# EAGLE library part 7461084 (library 7461084)
PCB power element bush terminal,8P, M6 Wurth Elektronik 8 Pin Power Element, Copper Zinc Alloy, 160A, M6, Vertical Source: Datasheet <https://www.we-online.com/components/products/datasheet/7461084.pdf>
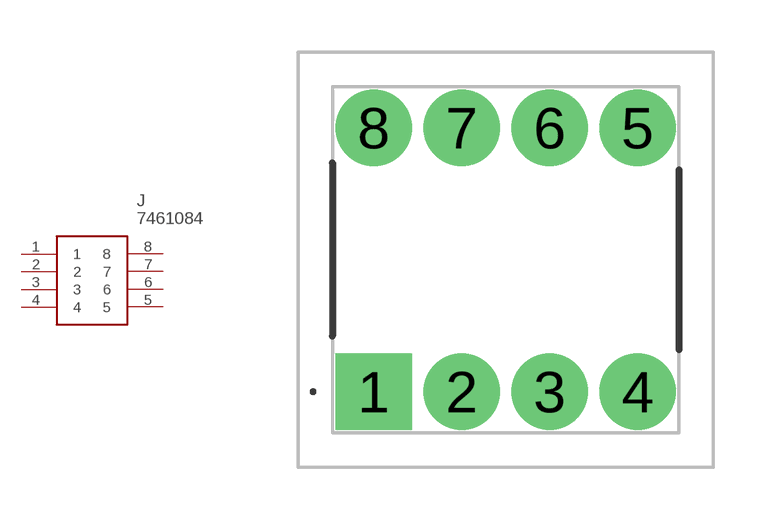
[diagram p0: symbol with the pads of 7461084; footprint 7461084]

Designator prefix J

## 7461084 (Description: PCB power element bush terminal,8P, M6 Wurth Elektronik 8 Pin Power Element, Copper Zinc Alloy, 160A, M6, Vertical; Height: 13.5mm; Manufacturer_Name: Wurth Elektronik; Manufacturer_Part_Number: 7461084; Mouser_Part_Number: 710-7461084; Mouser_Price-Stock: https://www.mouser.co.uk/ProductDetail/Wurth-Elektronik/7461084?qs=lykWx4dhCCHlOeuPuO4BAQ%3D%3D)  [7461084]
1  1
2  2
3  3
4  4
5  5
6  6
7  7
8  8

## Footprint 7461084 (pad centres in mm)
7461084
drill 1.475 pad 2.213 square: 1 0,0
drill 1.475 pad 2.213: 2 2.54,0; 3 5.08,0; 4 7.62,0; 5 7.62,7.62; 6 5.08,7.62; 7 2.54,7.62; 8 0,7.62